# Altium schematic symbol library Connector - HDMI.SchLib: 7 symbols
Pins are listed as number, name and electrical type; pins without a type are passive.

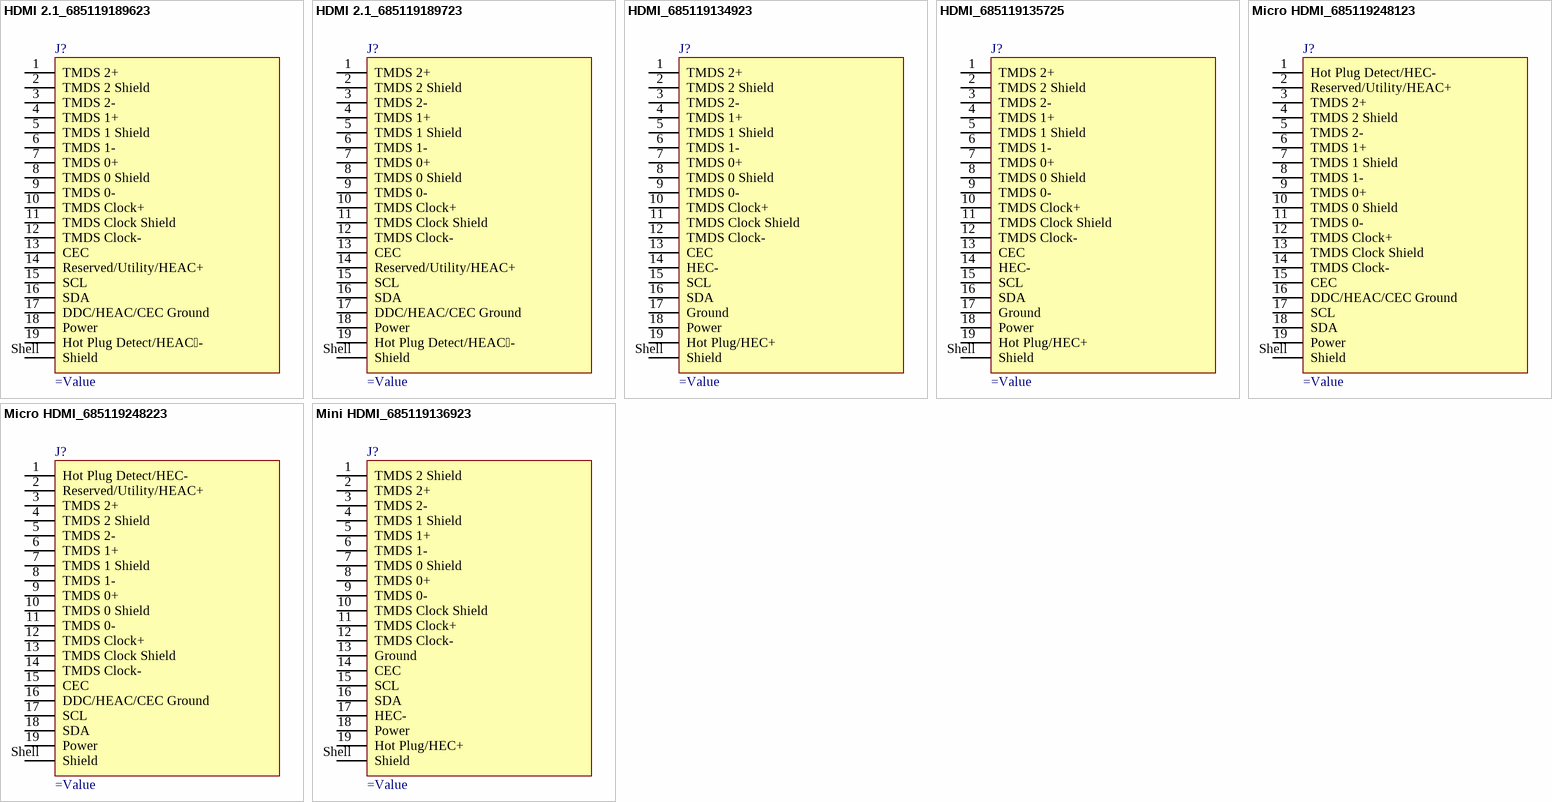
[diagram p0: symbols HDMI 2.1_685119189623 to Mini HDMI_685119136923]

## HDMI 2.1_685119189623
designator J?
pins: 1 TMDS 2+, 2 TMDS 2 Shield, 3 TMDS 2-, 4 TMDS 1+, 5 TMDS 1 Shield, 6 TMDS 1-, 7 TMDS 0+, 8 TMDS 0 Shield, 9 TMDS 0-, 10 TMDS Clock+, 11 TMDS Clock Shield, 12 TMDS Clock-, 13 CEC, 14 Reserved/Utility/HEAC+, 15 SCL, 16 SDA, 17 DDC/HEAC/CEC Ground, 18 Power, 19 Hot Plug Detect/HEAC-, Shell Shield

## HDMI 2.1_685119189723
designator J?
pins: 1 TMDS 2+, 2 TMDS 2 Shield, 3 TMDS 2-, 4 TMDS 1+, 5 TMDS 1 Shield, 6 TMDS 1-, 7 TMDS 0+, 8 TMDS 0 Shield, 9 TMDS 0-, 10 TMDS Clock+, 11 TMDS Clock Shield, 12 TMDS Clock-, 13 CEC, 14 Reserved/Utility/HEAC+, 15 SCL, 16 SDA, 17 DDC/HEAC/CEC Ground, 18 Power, 19 Hot Plug Detect/HEAC-, Shell Shield

## HDMI_685119134923
designator J?
pins: 1 TMDS 2+, 2 TMDS 2 Shield, 3 TMDS 2-, 4 TMDS 1+, 5 TMDS 1 Shield, 6 TMDS 1-, 7 TMDS 0+, 8 TMDS 0 Shield, 9 TMDS 0-, 10 TMDS Clock+, 11 TMDS Clock Shield, 12 TMDS Clock-, 13 CEC, 14 HEC-, 15 SCL, 16 SDA, 17 Ground, 18 Power, 19 Hot Plug/HEC+, Shell Shield

## HDMI_685119135725
designator J?
pins: 1 TMDS 2+, 2 TMDS 2 Shield, 3 TMDS 2-, 4 TMDS 1+, 5 TMDS 1 Shield, 6 TMDS 1-, 7 TMDS 0+, 8 TMDS 0 Shield, 9 TMDS 0-, 10 TMDS Clock+, 11 TMDS Clock Shield, 12 TMDS Clock-, 13 CEC, 14 HEC-, 15 SCL, 16 SDA, 17 Ground, 18 Power, 19 Hot Plug/HEC+, Shell Shield

## Micro HDMI_685119248123
designator J?
pins: 1 Hot Plug Detect/HEC-, 2 Reserved/Utility/HEAC+, 3 TMDS 2+, 4 TMDS 2 Shield, 5 TMDS 2-, 6 TMDS 1+, 7 TMDS 1 Shield, 8 TMDS 1-, 9 TMDS 0+, 10 TMDS 0 Shield, 11 TMDS 0-, 12 TMDS Clock+, 13 TMDS Clock Shield, 14 TMDS Clock-, 15 CEC, 16 DDC/HEAC/CEC Ground, 17 SCL, 18 SDA, 19 Power, Shell Shield

## Micro HDMI_685119248223
designator J?
pins: 1 Hot Plug Detect/HEC-, 2 Reserved/Utility/HEAC+, 3 TMDS 2+, 4 TMDS 2 Shield, 5 TMDS 2-, 6 TMDS 1+, 7 TMDS 1 Shield, 8 TMDS 1-, 9 TMDS 0+, 10 TMDS 0 Shield, 11 TMDS 0-, 12 TMDS Clock+, 13 TMDS Clock Shield, 14 TMDS Clock-, 15 CEC, 16 DDC/HEAC/CEC Ground, 17 SCL, 18 SDA, 19 Power, Shell Shield

## Mini HDMI_685119136923
designator J?
pins: 1 TMDS 2 Shield, 2 TMDS 2+, 3 TMDS 2-, 4 TMDS 1 Shield, 5 TMDS 1+, 6 TMDS 1-, 7 TMDS 0 Shield, 8 TMDS 0+, 9 TMDS 0-, 10 TMDS Clock Shield, 11 TMDS Clock+, 12 TMDS Clock-, 13 Ground, 14 CEC, 15 SCL, 16 SDA, 17 HEC-, 18 Power, 19 Hot Plug/HEC+, Shell Shield